# EAGLE library part RP743-8 (library A3660)
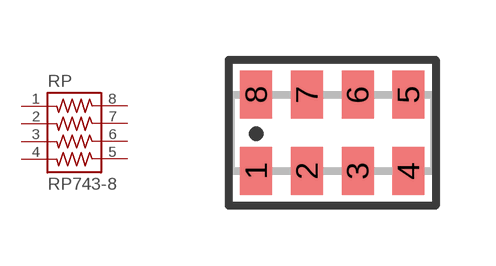
[diagram p14: symbol with the pads of RP743-8; footprint RP743-8]

Designator prefix RP

## RP743-8  [RP743-8]
1  1  pas
2  2  pas
3  3  pas
4  4  pas
5  5  pas
6  6  pas
7  7  pas
8  8  pas

## Footprint RP743-8 (pad centres in mm)
smd 0.8 x 1.2: 1 -1.905,-0.953; 2 -0.635,-0.953; 3 0.635,-0.953; 4 1.905,-0.953; 5 1.905,0.953; 6 0.635,0.953; 7 -0.635,0.953; 8 -1.905,0.953